# EAGLE library part FTS-105 (library DDL)
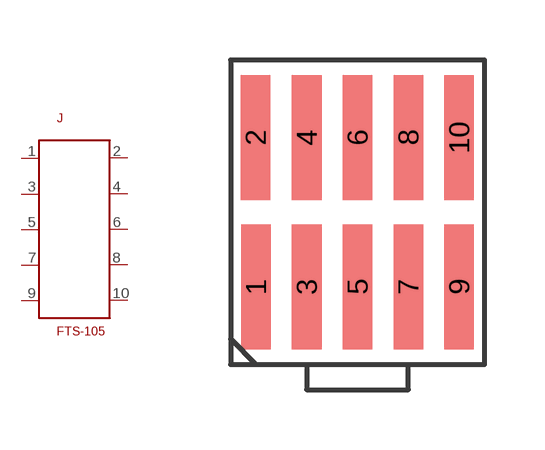
[diagram p0: symbol with the pads of FTS-105; footprint FTS-105]

Designator prefix J

## FTS-105 (HEIGHT: 4.32; LENGTH: 6.35; MFG: SAMTEC; PACKAGE: FTS-105; PARTNUM: FTS-105-01-F-DV; WIDTH: 3.42)  [FTS-105]
1  P$1
2  P$2
3  P$3
4  P$4
5  P$5
6  P$6
7  P$7
8  P$8
9  P$9
10  P$10

## Footprint FTS-105 (pad centres in mm)
smd 0.74 x 3.125: 1 -2.54,-1.868; 2 -2.547,1.868; 3 -1.27,-1.868; 4 -1.27,1.868; 5 0,-1.868; 6 0,1.868; 7 1.27,-1.868; 8 1.27,1.868; 9 2.54,-1.868; 10 2.54,1.868